# EAGLE library part XR2206 (library ic)
XR2206: Function generator (Exar) 15V, 10mHz-1MHz, sine/triangle/square/ramp/pulse waveforms
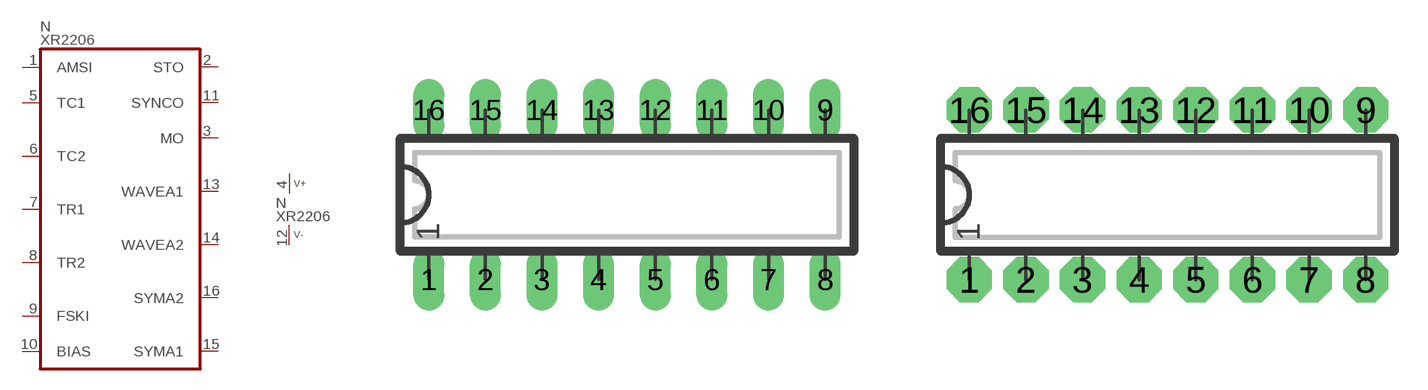
[diagram p130: symbol with the pads of DIP16L; footprints DIP16L, DIP16N]

Designator prefix N; gates A=XR2206 P=V+-

## XR2206  [DIP16L]
1  A:AMSI  in
2  A:STO  out
3  A:MO  out
4  P:V+  pwr
5  A:TC1  pas
6  A:TC2  pas
7  A:TR1  pas
8  A:TR2  pas
9  A:FSKI
10  A:BIAS
11  A:SYNCO  oc
12  P:V-  pwr
13  A:WAVEA1
14  A:WAVEA2
15  A:SYMA1
16  A:SYMA2

## XR2206L  [DIP16L]
Pads as for DIP16L

## XR2206N  [DIP16N]
Pads as for DIP16L

## XR2206R  [DIP16R]
Pads as for DIP16L

## XR2206S  [SO16W]
Pads as for DIP16L

## Footprint DIP16L (pad centres in mm)
DIP-16, long pads Standard IC package, 16 pins
drill 0.813 pad 1.397 long: 1 -8.89,-3.81; 2 -6.35,-3.81; 3 -3.81,-3.81; 4 -1.27,-3.81; 5 1.27,-3.81; 6 3.81,-3.81; 7 6.35,-3.81; 8 8.89,-3.81; 9 8.89,3.81; 10 6.35,3.81; 11 3.81,3.81; 12 1.27,3.81; 13 -1.27,3.81; 14 -3.81,3.81; 15 -6.35,3.81; 16 -8.89,3.81

## Footprint DIP16N (pad centres in mm)
DIP-16 Standard IC package, 16 pins
drill 0.813 pad 2.032 octagon: 1 -8.89,-3.81; 2 -6.35,-3.81; 3 -3.81,-3.81; 4 -1.27,-3.81; 5 1.27,-3.81; 6 3.81,-3.81; 7 6.35,-3.81; 8 8.89,-3.81; 9 8.89,3.81; 10 6.35,3.81; 11 3.81,3.81; 12 1.27,3.81; 13 -1.27,3.81; 14 -3.81,3.81; 15 -6.35,3.81; 16 -8.89,3.81

## Footprint DIP16R (pad centres in mm)
DIP-16, reduced pads Standard IC package, 16 pins
drill 0.813 pad 1.397 square: 1 -8.89,-3.81; 2 -6.35,-3.81; 3 -3.81,-3.81; 4 -1.27,-3.81; 5 1.27,-3.81; 6 3.81,-3.81; 7 6.35,-3.81; 8 8.89,-3.81; 9 8.89,3.81; 10 6.35,3.81; 11 3.81,3.81; 12 1.27,3.81; 13 -1.27,3.81; 14 -3.81,3.81; 15 -6.35,3.81; 16 -8.89,3.81

## Footprint SO16W (pad centres in mm)
SO-16, SMD wide SOIC IC package, 16 pins, wide
smd 0.635 x 1.778: 1 -4.445,-5.08; 2 -3.175,-5.08; 3 -1.905,-5.08; 4 -0.635,-5.08; 5 0.635,-5.08; 6 1.905,-5.08; 7 3.175,-5.08; 8 4.445,-5.08; 9 4.445,5.08; 10 3.175,5.08; 11 1.905,5.08; 12 0.635,5.08; 13 -0.635,5.08; 14 -1.905,5.08; 15 -3.175,5.08; 16 -4.445,5.08